# EAGLE library part FE08W (library con-lsta-ws)
FEMALE HEADER
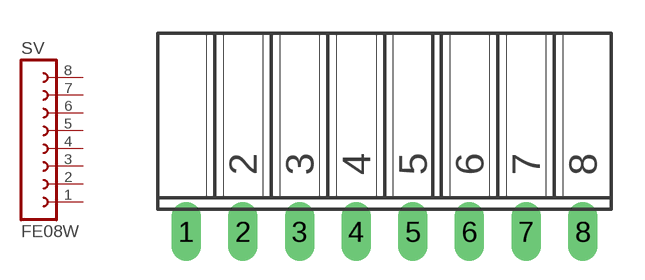
[diagram p16: symbol with the pads of FE08W; footprint FE08W]

Designator prefix SV

## FE08W (OC_FARNELL: unknown; OC_NEWARK: unknown)  [FE08W]
1  1  pas
2  2  pas
3  3  pas
4  4  pas
5  5  pas
6  6  pas
7  7  pas
8  8  pas

## Footprint FE08W (pad centres in mm)
FEMALE HEADER
drill 0.813 long: 1 -8.89,0; 2 -6.35,0; 3 -3.81,0; 4 -1.27,0; 5 1.27,0; 6 3.81,0; 7 6.35,0; 8 8.89,0